# EAGLE library part CLY6D-FKC-CK1N1D1BB7D3D3 (library EYR_Diodos)
LED RGB SMD
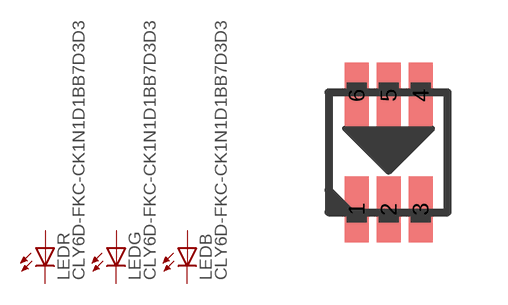
[diagram p0: symbol with the pads of CLY6D-FKC; footprint CLY6D-FKC]

Designator prefix LED; gates R=LED G=LED B=LED

## CLY6D-FKC-CK1N1D1BB7D3D3  [CLY6D-FKC]
1  B:C  pas
2  G:C  pas
3  R:C  pas
4  R:A  pas
5  G:A  pas
6  B:A  pas

## Footprint CLY6D-FKC (pad centres in mm)
LED RGB Cree PLCC6 3 in 1 SMD LED CLY6D-FKC Series Source: https://www.mouser.mx/datasheet/2/90/1321%20CLY6D%20FKC-534122.pdf
smd 0.6 x 1.65: 1 -0.8,-1.425; 2 0,-1.425; 3 0.8,-1.425; 4 0.8,1.425; 5 0,1.425; 6 -0.8,1.425